# Altium schematic symbol library NN02-224.SchLib: 1 symbol
Pins are listed as number, name and electrical type; pins without a type are passive.

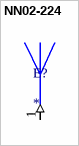
[diagram p0: symbol NN02-224]

## NN02-224
designator E?
Ultra-compact form antenna booster for GSM, UMTS, 4G, GNSS, Bluetooth, Wi-Fi Dual Band (824 960MHz, 1710 2690MHz, 1561 1606MHz, 2400 2500MHz and 4900 5875MHz); MP: NN02-224; MF: Fractus Antennas S.L.; Package: None; Price: None; Availability: Good; Value: *; Check_prices: https://www.snapeda.com/parts/NN02-224/Fractus%20Antennas%20S.L./view-part/5002110/?ref=eda; Purchase-URL: https://pricing.snapeda.com/search/part/NN02-224/?ref=eda; SnapEDA_Link: https://www.snapeda.com/parts/NN02-224/Fractus%20Antennas%20S.L./view-part/5002110/?ref=snap
footprint XCVR_NN02-224
pins: 1 FEED (in)